# EAGLE library part BMS_BQ24040DSQR (library 1_ZeroUI)
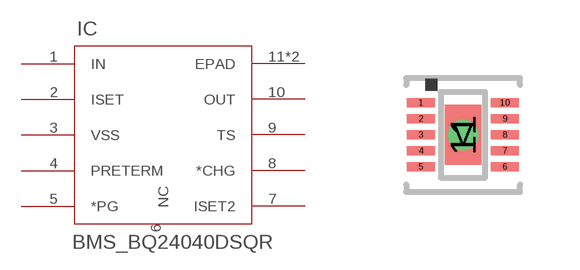
[diagram p11: symbol with the pads of BQ24040DSQR; footprint BQ24040DSQR]

Designator prefix IC

## BMS_BQ24040DSQR (3D_LIBRARY_NAME: TI_AllParts_2012-12-25; COPYRIGHT: Copyright (C) 2015 Accelerated Designs. All rights reserved; DATASHEETURL: http://www.ti.com/lit/gpn/BQ24040; FAMILY_NAME: BATTERY CHARGE MANAGEMENT; GENERIC_PART_NUMBER: BQ24040; INDUSTRY_STD_PKG_TYPE: SON; MANUFACTURER: Texas Instruments; MANUFACTURER_PART_NUMBER: BQ24040DSQR; PACKAGE_DESIGNATOR: DSQ; PIN_COUNT: 10; VALUE: BQ24040DSQR_BMS; VENDOR: Vendor)  [BQ24040DSQR]
1  IN  in
2  ISET  in
3  VSS  pwr
4  PRETERM  in
5  *PG  out
6  NC  nc
7  ISET2  in
8  *CHG  out
9  TS  in
10  OUT  out
11  EPAD  pwr
V  EPAD  pwr

## Footprint BQ24040DSQR (pad centres in mm)
smd 0.7 x 0.23: 1 -1.05,0.8; 2 -1.05,0.4; 3 -1.05,0; 4 -1.05,-0.4; 5 -1.05,-0.8; 6 1.05,-0.8; 7 1.05,-0.4; 8 1.05,0; 9 1.05,0.4; 10 1.05,0.8
smd 0.914 x 1.499: 11 0,0
drill 0.254 pad 0.508: V 0,0